# EAGLE library part CON-VECTREX-M (library Custom)
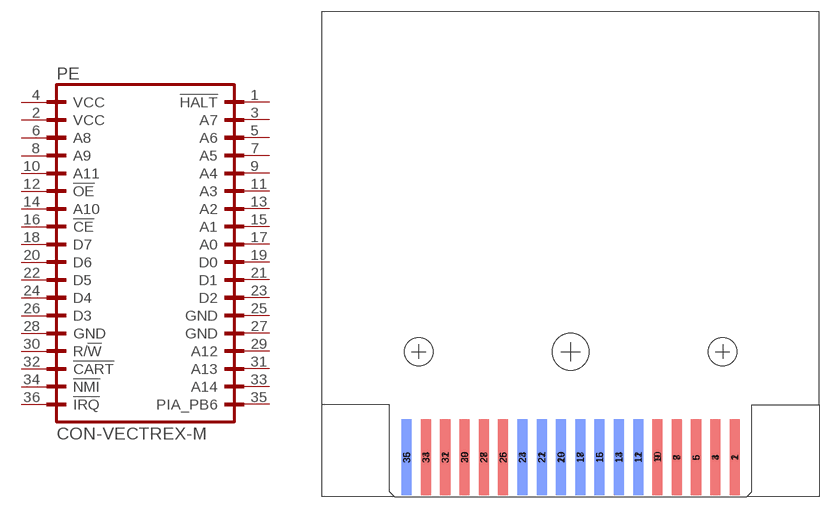
[diagram p1: symbol with the pads of PCB_VECTREX_CONNECTOR; footprint PCB_VECTREX_CONNECTOR]

Designator prefix PE

## CON-VECTREX-M  [PCB_VECTREX_CONNECTOR]
1  !HALT
2  VCC  pas
3  A7
4  VCC  pwr
5  A6
6  A8
7  A5
8  A9
9  A4
10  A11
11  A3
12  !OE
13  A2
14  A10
15  A1
16  !CE
17  A0
18  D7  out
19  D0  out
20  D6  out
21  D1  out
22  D5  out
23  D2  out
24  D4  out
25  GND  pwr
26  D3  out
27  GND  pas
28  GND  pas
29  A12
30  R/!W  nc
31  A13
32  !CART
33  A14
34  !NMI  nc
35  PIA_PB6
36  !IRQ  nc

## Footprint PCB_VECTREX_CONNECTOR (pad centres in mm)
Vectrex PCB connector package
smd 1.32 x 9.982 bottom: 1 21.59,3.873; 3 19.05,3.873; 5 16.51,3.873; 7 13.97,3.873; 9 11.43,3.873; 11 8.89,3.873; 13 6.35,3.873; 15 3.81,3.873; 17 1.27,3.873; 19 -1.27,3.873; 21 -3.81,3.873; 23 -6.35,3.873; 25 -8.89,3.873; 27 -11.43,3.873; 29 -13.97,3.873; 31 -16.51,3.873; 33 -19.05,3.873; 35 -21.59,3.873
smd 1.32 x 9.982: 2 21.59,3.873; 4 19.05,3.873; 6 16.51,3.873; 8 13.97,3.873; 10 11.43,3.873; 12 8.89,3.873; 14 6.35,3.873; 16 3.81,3.873; 18 1.27,3.873; 20 -1.27,3.873; 22 -3.81,3.873; 24 -6.35,3.873; 26 -8.89,3.873; 28 -11.43,3.873; 30 -13.97,3.873; 32 -16.51,3.873; 34 -19.05,3.873; 36 -21.59,3.873